# Altium footprint library CON_JST_.PcbLib: 30 footprints (part 1 of 2)
Each footprint in its own frame and in the unit in brackets; x right, y up, seen from the top. Pads: shape width x height; smd on the part's side, far side on the other; paste and mask are expansions set on the pad; w line width, h text height; cw(c..) or ccw(c..) is an arc to the next point about the centre after c.
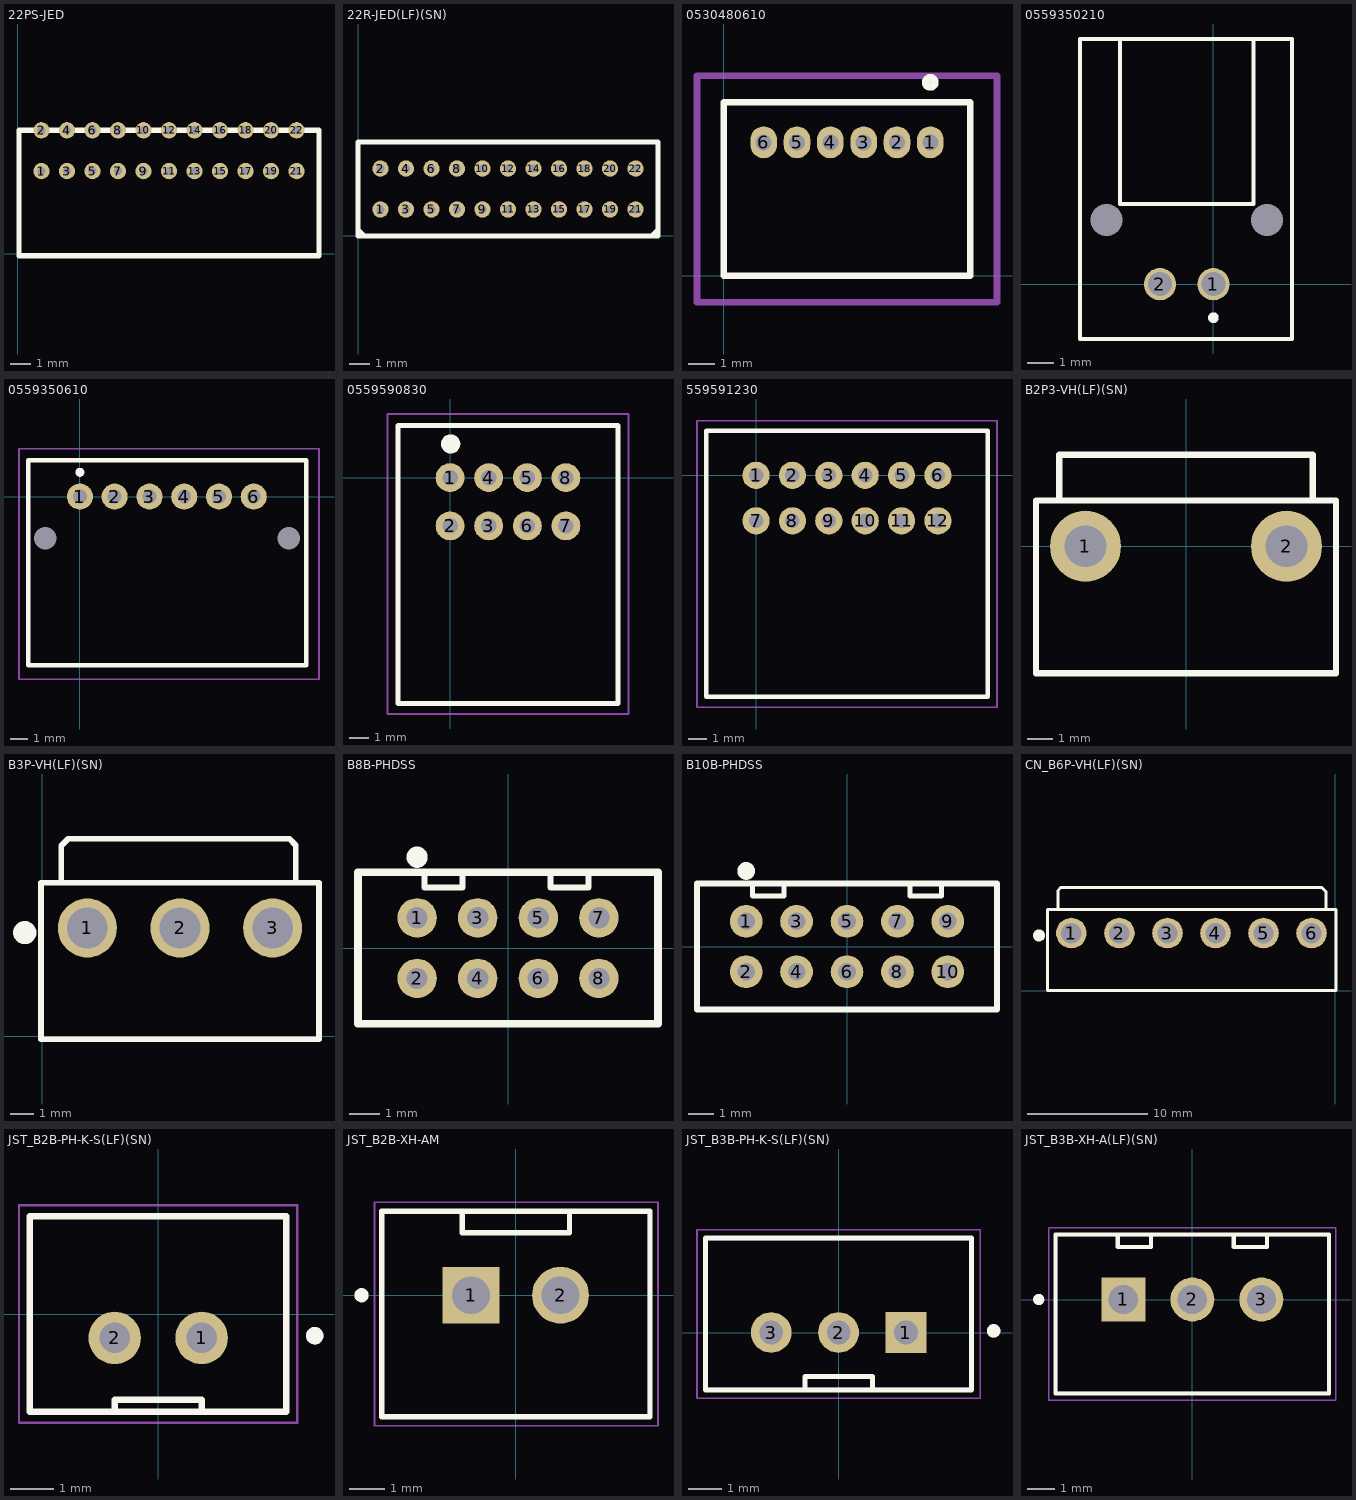
[diagram p0: the footprints below, top view; thin cyan lines are the x and y axes]

## 22PS-JED [mm] "CONN HEADER R/A 22POS 1.25MM"
pads (22):
  round 0.8 hole 0.4: 1(1.15,4.05) 2(1.15,6.05) 3(2.4,4.05) 4(2.4,6.05) 5(3.65,4.05) 6(3.65,6.05) 7(4.9,4.05) 8(4.9,6.05) 9(6.15,4.05) 10(6.15,6.05) 11(7.4,4.05) 12(7.4,6.05) 13(8.65,4.05) 14(8.65,6.05) 15(9.9,4.05) 16(9.9,6.05) 17(11.15,4.05) 18(11.15,6.05) 19(12.4,4.05) 20(12.4,6.05) 21(13.65,4.05) 22(13.65,6.05)
Top Overlay:
  lines w0.254: 0.05,-0.1 14.75,-0.1 14.75,6.05 0.05,6.05 0.05,-0.1
3D body "22PS-JED.STEP": height 4.65, standoff -1.95, extent 0,0 14.7,6.3

## 22R-JED(LF)(SN) [mm] "CONN RCPT 22POS 0.049 TIN PCB"
pads (22):
  round 0.8 hole 0.4: 1(1.1,1.3) 2(1.1,3.3) 3(2.35,1.3) 4(2.35,3.3) 5(3.6,1.3) 6(3.6,3.3) 7(4.85,1.3) 8(4.85,3.3) 9(6.1,1.3) 10(6.1,3.3) 11(7.35,1.3) 12(7.35,3.3) 13(8.6,1.3) 14(8.6,3.3) 15(9.85,1.3) 16(9.85,3.3) 17(11.1,1.3) 18(11.1,3.3) 19(12.35,1.3) 20(12.35,3.3) 21(13.6,1.3) 22(13.6,3.3)
Top Overlay:
  lines w0.254: 0,0.4 0,0.3 0.3,0 ; 14.4,0 14.7,0.3 14.7,0.4 ; 0,0 0,4.6 14.7,4.6 14.7,0 0,0
3D body "22R-JED.STEP": height 4.9, standoff -1.5, extent 0.05,-0.1 14.75,4.5

## 0530480610 [mm] "CONN HEADER R/A 6POS 1.25MM"
pads (6):
  oval 1x1.2 hole 0.6: 1(7.75,5) 2(6.5,5) 3(5.25,5) 4(4,5) 5(2.75,5) 6(1.5,5)
Top Overlay:
  circle w0.3: c7.75,7.25 r0.163
  lines w0.254: 0,0 0,6.5 9.25,6.5 9.25,0 0,0
Mechanical 16:
  lines w0.254: -1,-1 -1,7.5 10.25,7.5 10.25,-1 -1,-1
3D body "530480610.stp": height 3.6, standoff -2.2, extent 0,0.525 9.25,6.025

## 0559350210 [mm] "CONN HEADER R/A 2POS 2MM"
height 4.8
pads (4):
  round 0 hole 1.2: 1(-4,2.4) 1(2,2.4)
  round 1.208 hole 0.9: 1(0,0) 2(-2,0)
Top Overlay:
  circle w0.2: c0,-1.25 r0.1
  lines w0.15: -3.5,9.175 -3.5,3 1.5,3 1.5,9.175 ; -5,-2.05 2.95,-2.05 2.95,9.175 -5,9.175 -5,-2.05
Mechanical 4:
  lines w0.127: -5,-2.05 2.95,-2.05 ; 1.95,9.175 -5,9.175 ; 2.95,4.95 2.95,8.925 ; 2.95,5.2 2.95,9.175 -5,9.175 ; -5,9.175 -5,-1.05 -5,9.175
3D body "55935-0210.stp": height 6.7, standoff -3.2, extent -5,-2.125 3,9.625

## 0559350610 [mm] "CONN HEADER R/A 6POS 2MM"
pads (8):
  round 1.5 hole 0.8: 1(0,0) 2(2,0) 3(4,0) 4(6,0) 5(8,0) 6(10,0)
  round 0 hole 1.3: FX(-2,-2.4) FX(12,-2.4)
Top Overlay:
  circle w0.254: c0,1.4 r0.132
  lines w0.254: -2.975,-9.7 13.025,-9.7 13.025,2.1 -2.975,2.1 -2.975,-9.7
Mechanical 16:
  lines w0.1: -3.5,-10.5 13.75,-10.5 13.75,2.75 -3.5,2.75 -3.5,-10.5
3D body "559350610.stp": height 6.8, standoff -3.1, extent -2.998,-9.705 13.002,2.045

## 0559590830 [mm] "CONN HEADER R/A 8POS 2MM"
pads (8):
  round 1.5 hole 0.8: 1(0,0) 2(0,-2.5) 3(2,-2.5) 4(2,0) 5(4,0) 6(4,-2.5) 7(6,-2.5) 8(6,0)
Top Overlay:
  circle w0.5: c0.025,1.75 r0.25
  lines w0.254: -2.7,-11.7 -2.7,2.7 8.7,2.7 8.7,-11.7 -2.7,-11.7
Mechanical 16:
  lines w0.1: -3.25,-12.25 9.25,-12.25 9.25,3.3 -3.25,3.3 -3.25,-12.25
3D body "559590830.stp": height 11.85, standoff -3.05, extent -2.7,-12.2 8.7,2.3

## 559591230 [mm] "CONN HEADER R/A 12POS 2MM"
pads (12):
  round 1.5 hole 0.8: 1(0,0) 2(2,0) 3(4,0) 4(6,0) 5(8,0) 6(10,0) 7(0,-2.5) 8(2,-2.5) 9(4,-2.5) 10(6,-2.5) 11(8,-2.5) 12(10,-2.5)
Top Overlay:
  lines w0.254: -2.75,-12.175 12.75,-12.175 12.75,2.45 -2.75,2.45 -2.75,-12.175
Mechanical 16:
  lines w0.1: -3.25,-12.75 -3.25,3 13.25,3 13.25,-12.75 -3.25,-12.75
3D body "559591230.stp": height 11.65, standoff -3.25, extent -2.7,-12.25 12.7,2.25

## B2P3-VH(LF)(SN) [mm] "CONN HEADER VERT 2POS 7.92MM"
height 9.4
pads (2):
  round 2.8 hole 1.65: 1(-3.96,0) 2(3.96,0)
Top Overlay:
  lines w0.25: -5,1.8 -5,3.6 5,3.6 5,1.8 ; -5.91,-5 5.91,-5 5.91,1.8 -5.91,1.8 -5.91,-5
3D body: height 10.9, standoff -3.7, extent 3.42,-0.5 4.52,0.5
3D body: height 10.9, standoff -3.7, extent -4.5,-0.5 -3.4,0.5
3D body: height 9.4, standoff 0, extent -5,1.8 5,3.6
3D body: height 3.2, standoff 0, extent -5.9,-5 5.9,1.8

## B3P-VH(LF)(SN) [mm]
pads (3):
  round 2.55 hole 1.751: 1(1.946,4.675) 2(5.946,4.675) 3(9.946,4.675)
Top Overlay:
  circle w0.5: c-0.754,4.475 r0.25
  lines w0.25: 0.821,6.7 0.821,8.225 1.121,8.525 10.671,8.525 10.946,8.25 10.946,6.65 10.971,6.625 ; -0.054,-0.125 -0.054,6.625 11.946,6.625 11.946,-0.125 -0.054,-0.125
3D body "User Library-B3P-VH.STEP": height 10.9, standoff -3.7, extent 0.051,0 11.871,8.5

## B8B-PHDSS [mm] "Conn Header TH 8 position 0.079\" (2.00mm)"
height 6.5
pads (8):
  round 1.3 hole 0.7: 1(-3,1) 2(-3,-1) 3(-1,1) 4(-1,-1) 5(1,1) 6(1,-1) 7(3,1) 8(3,-1)
Top Overlay:
  circle w0.5: c-3,3 r0.1
  lines w0.2: -2.75,2.5 -2.75,2 -1.5,2 -1.5,2.5 ; 1.4,2.5 1.4,2 2.65,2 2.65,2.5
  lines w0.25: -4.95,-2.5 -4.95,2.5 4.95,2.5 4.95,-2.5 -4.95,-2.5
3D body: height 5.5, standoff 1.5, extent -4.9,-2.5 4.95,-2.4
3D body: height 5.5, standoff 1.5, extent -4.9,2.4 4.95,2.5
3D body: height 5.5, standoff 1.5, extent -4.9,-2.5 -4.8,2.5
3D body: height 5.5, standoff 1.5, extent 4.85,-2.5 4.95,2.5
3D body: height 1.5, standoff 0.05, extent -4.9,-2.5 4.9,2.375
3D body: height 1, standoff 0.02, extent -4.9,-2.5 4.9,2.5
3D body: height 4.9, standoff -3, extent -3.248,-1.249 -2.75,-0.75
3D body: height 4.9, standoff -3, extent -1.248,-1.249 -0.75,-0.75
3D body: height 4.9, standoff -3, extent 0.752,-1.249 1.25,-0.75
3D body: height 4.9, standoff -3, extent 2.752,-1.249 3.25,-0.75
3D body: height 4.9, standoff -3, extent 2.752,0.751 3.25,1.25
3D body: height 4.9, standoff -3, extent 0.752,0.751 1.25,1.25
3D body: height 4.9, standoff -3, extent -1.248,0.751 -0.75,1.25
3D body: height 4.9, standoff -3, extent -3.249,0.75 -2.751,1.25

## B10B-PHDSS [mm] "Conn Header TH 10 position 0.079\" (2.00mm)"
height 6.5
pads (10):
  round 1.3 hole 0.7: 1(-4,1) 2(-4,-1) 3(-2,1) 4(-2,-1) 5(0,1) 6(0,-1) 7(2,1) 8(2,-1) 9(4,1) 10(4,-1)
Top Overlay:
  circle w0.5: c-4,3 r0.1
  lines w0.2: -3.75,2.5 -3.75,2 -2.5,2 -2.5,2.5 ; 2.5,2.5 2.5,2 3.75,2 3.75,2.5
  lines w0.25: -5.95,-2.5 5.95,-2.5 5.95,2.5 -5.95,2.5 -5.95,-2.5
3D body: height 4.9, standoff -3, extent -4.249,0.75 -3.751,1.25
3D body: height 4.9, standoff -3, extent -2.248,0.751 -1.75,1.25
3D body: height 4.9, standoff -3, extent -0.248,0.751 0.25,1.25
3D body: height 4.9, standoff -3, extent 1.752,0.751 2.25,1.25
3D body: height 4.9, standoff -3, extent 3.752,0.751 4.25,1.25
3D body: height 4.9, standoff -3, extent 3.752,-1.249 4.25,-0.75
3D body: height 4.9, standoff -3, extent 1.752,-1.249 2.25,-0.75
3D body: height 4.9, standoff -3, extent -0.248,-1.249 0.25,-0.75
3D body: height 4.9, standoff -3, extent -2.248,-1.249 -1.75,-0.75
3D body: height 4.9, standoff -3, extent -4.248,-1.249 -3.75,-0.75
3D body: height 1, standoff 0.02, extent -5.9,-2.5 5.9,2.5
3D body: height 1.5, standoff 0.05, extent -5.9,-2.5 5.9,2.375
3D body: height 5.5, standoff 1.5, extent 5.8,-2.5 5.9,2.5
3D body: height 5.5, standoff 1.5, extent -5.9,-2.5 -5.8,2.5
3D body: height 5.5, standoff 1.5, extent -5.9,2.4 5.9,2.5
3D body: height 5.5, standoff 1.5, extent -5.9,-2.5 5.9,-2.4

## CN_B6P-VH(LF)(SN) [mm]
pads (6):
  round 2.55 hole 1.7: 1(-21.956,4.801) 2(-17.956,4.801) 3(-13.956,4.801) 4(-9.956,4.801) 5(-5.956,4.801) 6(-1.956,4.801)
Top Overlay:
  circle w0.5: c-24.656,4.601 r0.25
  lines w0.25: -23.081,6.826 -23.081,8.351 -22.821,8.611 -1.118,8.611 -0.772,8.265 -0.772,6.776 ; -12.956,6.776 -12.931,6.751 ; -23.956,0.001 0.081,0.001 0.081,6.751 -23.956,6.751 -23.956,0.001
3D body "User Library-user_library-b6p-vh_asm.STEP": height 10.9, standoff -3.7, extent -23.628,0.152 -0.198,8.652

## JST_B2B-PH-K-S(LF)(SN) [mm]
pads (2):
  round 1.208 hole 0.7: 1(1,-0.55) 2(-1,-0.55)
Top Overlay:
  circle w0.2: c3.6,-0.5 r0.1
  lines w0.15: -1,-2.25 -1,-1.975 1,-1.975 1,-2.25 ; -2.95,-2.25 -2.95,2.25 2.95,2.25 2.95,-2.25 -2.95,-2.25
Mechanical 4:
  circle w0.2: c3.6,-0.5 r0.1
  circle w0.2: c3.6,-0.5 r0.1
  lines w0.127: -2.95,-2.25 2.95,-2.25 ; -2.95,-2.25 -2.95,2.25 ; -2.95,-2.25 2.95,-2.25 ; -2.95,-2.25 -2.95,2.25 ; -2.95,2.25 2.95,2.25 ; -2.95,2.25 2.95,2.25 ; 2.95,-2.25 2.95,2.25 ; 2.95,-2.25 2.95,2.25
Mechanical 16:
  lines w0.05: -3.2,-2.5 3.2,-2.5 3.2,2.5 -3.2,2.5 -3.2,-2.5
3D body: height 6, standoff 1.5, extent -2.9,2.1 2.9,2.2
3D body: height 6, standoff 1.5, extent -2.9,-2.2 -2.8,2.2
3D body: height 6, standoff 1.5, extent -2.9,-2.2 -1,-2.1
3D body: height 6, standoff 1.5, extent 2.8,-2.2 2.9,2.2
3D body: height 6, standoff 1.5, extent 1,-2.2 2.9,-2.1
3D body: height 5, standoff -3, extent -1.298,-0.849 -0.7,-0.251
3D body: height 5, standoff -3, extent 0.702,-0.849 1.3,-0.25
3D body: height 1.5, standoff 0.05, extent -2.9,-2.2 2.9,2.2

## JST_B2B-XH-AM [mm] "Connector Header Through Hole 2 position 0.098\" (2.50mm)"
height 7
pads (2):
  rect 1.59x1.59 hole 1.06: 1(-1.25,0)
  round 1.59 hole 1.06: 2(1.25,0)
Top Overlay:
  circle w0.2: c-4.31,0 r0.1
  lines w0.15: -1.5,2.35 -1.5,1.75 1.5,1.75 1.5,2.35 ; -3.75,-3.4 -3.75,2.35 3.75,2.35 3.75,-3.4 -3.75,-3.4
Mechanical 4:
  lines w0.127: 3.7,-3.4 3.75,-3.4 ; -3.75,-3.4 -3.75,2.35 ; -3.75,-3.4 3.75,-3.4 ; -3.75,-3.4 -3.75,2.35 ; -3.75,2.35 3.75,2.35 ; -3.75,2.35 3.75,2.35 ; 3.75,-3.4 3.75,2.35
Mechanical 16:
  lines w0.05: -3.95,-3.65 -3.95,2.6 3.975,2.6 3.975,-3.65 -3.95,-3.65
3D body: height 6, standoff 1.5, extent 3.35,-3.402 3.75,2.374
3D body: height 6, standoff 1.5, extent 1.5,2 3.75,2.375
3D body: height 5, standoff -3, extent -1.746,-0.499 -0.75,0.499
3D body: height 5, standoff -3, extent 0.754,-0.5 1.75,0.498
3D body: height 1.5, standoff 0.05, extent -3.75,-3.402 3.75,2.375
3D body: height 6, standoff 1.5, extent -3.75,2.049 -1.55,2.376
3D body: height 6, standoff 1.5, extent -3.7,-3.401 3.7,-3
3D body: height 6, standoff 1.5, extent -3.75,-3.375 -3.35,2.375

## JST_B3B-PH-K-S(LF)(SN) [mm]
pads (3):
  rect 1.208x1.208 hole 0.7: 1(2,0)
  round 1.208 hole 0.7: 2(0,0) 3(-2,0)
Top Overlay:
  circle w0.2: c4.6,0.05 r0.1
  lines w0.15: -1,-1.7 -1,-1.3 1,-1.3 1,-1.7 ; -3.95,-1.7 3.95,-1.7 3.95,2.8 -3.95,2.8 -3.95,-1.7
Mechanical 4:
  circle w0.2: c4.6,0.05 r0.1
  circle w0.2: c4.6,0.05 r0.1
  lines w0.127: -3.95,-1.7 -3.95,2.8 ; -3.95,-1.7 3.95,-1.7 ; -3.95,-1.7 -3.95,2.8 ; -3.95,-1.7 3.95,-1.7 ; -3.95,2.8 3.95,2.8 ; -3.95,2.8 3.95,2.8 ; 3.95,-1.7 3.95,2.8 ; 3.95,-1.7 3.95,2.8
Mechanical 16:
  lines w0.05: -4.2,-1.95 -4.2,3.05 4.2,3.05 4.2,-1.95 -4.2,-1.95
3D body: height 5, standoff -3, extent 1.702,-0.299 2.3,0.3
3D body: height 5, standoff -3, extent -0.297,-0.299 0.3,0.3
3D body: height 5, standoff -3, extent -2.298,-0.299 -1.7,0.3
3D body: height 1.5, standoff 0.05, extent -3.9,-1.7 3.9,2.8
3D body: height 6, standoff 1.5, extent 3.7,-1.7 3.9,2.8
3D body: height 6, standoff 1.5, extent -3.9,2.6 3.9,2.8
3D body: height 6, standoff 1.5, extent 1,-1.7 3.9,-1.5
3D body: height 6, standoff 1.5, extent -3.9,-1.7 -1,-1.5
3D body: height 6, standoff 1.5, extent -3.9,-1.7 -3.7,2.8

## JST_B3B-XH-A(LF)(SN) [mm]
pads (3):
  rect 1.59x1.59 hole 1.06: 1(-2.5,0.001)
  round 1.59 hole 1.06: 2(0,0.001) 3(2.5,0.001)
Top Overlay:
  circle w0.2: c-5.56,0.001 r0.1
  lines w0.15: -2.7,2.35 -2.7,1.9 -1.5,1.9 -1.5,2.351 ; 1.5,2.35 1.5,1.9 2.7,1.9 2.7,2.351 ; -4.95,-3.399 -4.95,2.351 4.95,2.351 4.95,-3.399 -4.95,-3.399
Mechanical 4:
  lines w0.127: -4.95,-3.399 -4.95,2.351 ; -4.95,-3.399 4.95,-3.399 ; -4.95,-3.399 -4.95,2.351 ; -4.95,-3.399 4.95,-3.399 ; -4.95,2.351 4.95,2.351 ; -4.95,2.351 4.95,2.351 ; 4.95,-3.399 4.95,2.351 ; 4.95,-3.399 4.95,2.351
Mechanical 16:
  lines w0.05: -5.2,-3.649 -5.2,2.601 5.2,2.601 5.2,-3.649 -5.2,-3.649
3D body: height 1.5, standoff 0.05, extent -4.9,-3.4 4.9,2.301
3D body: height 6, standoff 1.5, extent -4.9,-3.4 4.9,-2.999
3D body: height 6, standoff 1.5, extent -4.9,-3.399 -4.5,2.301
3D body: height 6, standoff 1.5, extent -4.9,2 -2.7,2.301
3D body: height 6, standoff 1.5, extent 2.7,2 4.9,2.301
3D body: height 6, standoff 1.5, extent -1.5,2 1.5,2.3
3D body: height 6, standoff 1.5, extent 4.7,-3.4 4.9,2.3
3D body: height 5, standoff -3, extent -2.996,-0.498 -2,0.5
3D body: height 5, standoff -3, extent -0.496,-0.499 0.5,0.499
3D body: height 5, standoff -3, extent 2.004,-0.499 3,0.499